# Altium schematic symbol library EL-sense_LED_Display_Drivers.SchLib: 3 symbols
Pins are listed as number, name and electrical type; pins without a type are passive.

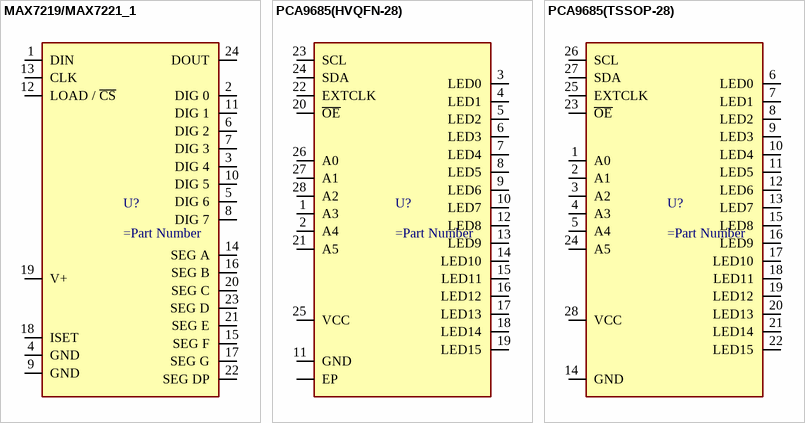
[diagram p0: symbols MAX7219/MAX7221_1 to PCA9685(TSSOP-28)]

## MAX7219/MAX7221_1
designator U?
pins: 1 DIN, 2 DIG 0, 3 DIG 4, 4 GND, 5 DIG 6, 6 DIG 2, 7 DIG 3, 8 DIG 7, 9 GND, 10 DIG 5, 11 DIG 1, 12 LOAD / ~{CS}, 13 CLK, 14 SEG A, 15 SEG F, 16 SEG B, 17 SEG G, 18 ISET, 19 V+, 20 SEG C, 21 SEG E, 22 SEG DP, 23 SEG D, 24 DOUT

## PCA9685(HVQFN-28)
designator U?
pins: 1 A3, 2 A4, 3 LED0, 4 LED1, 5 LED2, 6 LED3, 7 LED4, 8 LED5, 9 LED6, 10 LED7, 11 GND, 12 LED8, 13 LED9, 14 LED10, 15 LED11, 16 LED12, 17 LED13, 18 LED14, 19 LED15, 20 ~{OE}, 21 A5, 22 EXTCLK, 23 SCL, 24 SDA, 25 VCC, 26 A0, 27 A1, 28 A2, EP

## PCA9685(TSSOP-28)
designator U?
pins: 1 A0, 2 A1, 3 A2, 4 A3, 5 A4, 6 LED0, 7 LED1, 8 LED2, 9 LED3, 10 LED4, 11 LED5, 12 LED6, 13 LED7, 14 GND, 15 LED8, 16 LED9, 17 LED10, 18 LED11, 19 LED12, 20 LED13, 21 LED14, 22 LED15, 23 ~{OE}, 24 A5, 25 EXTCLK, 26 SCL, 27 SDA, 28 VCC